# EAGLE library part LM358N (library LM358N)
Low Power Dual Operational Amplifiers Source: Datasheet <https://componentsearchengine.com/Datasheets/5/LM358N.pdf>
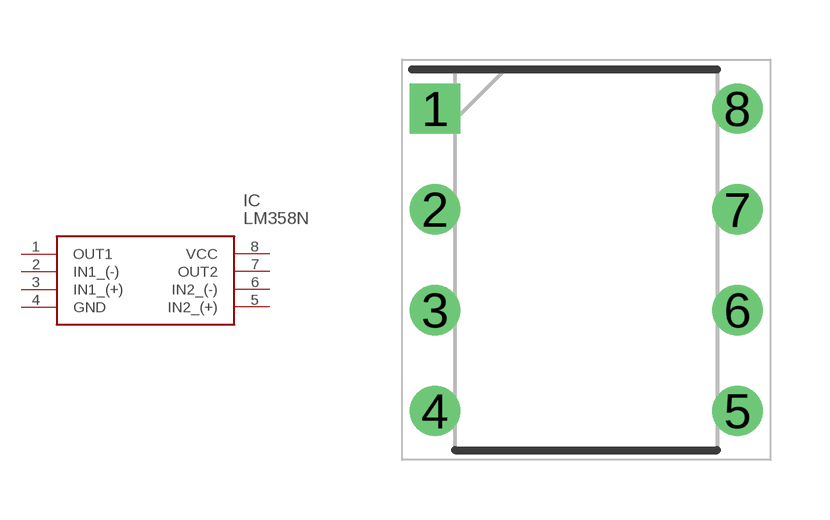
[diagram p0: symbol with the pads of DIP762W56P254L960H393Q8N; footprint DIP762W56P254L960H393Q8N]

Designator prefix IC

## LM358N (Description: Low Power Dual Operational Amplifiers; Height: 3.93mm; Manufacturer_Name: Texas Instruments; Manufacturer_Part_Number: LM358N; Mouser_Part_Number: 926-LM358N; Mouser_Price-Stock: https://www.mouser.co.uk/ProductDetail/Texas-Instruments/LM358N?qs=QbsRYf82W3EG2VDUre1RfQ%3D%3D)  [DIP762W56P254L960H393Q8N]
1  OUT1
2  IN1_(-)
3  IN1_(+)
4  GND
5  IN2_(+)
6  IN2_(-)
7  OUT2
8  VCC

## Footprint DIP762W56P254L960H393Q8N (pad centres in mm)
8-DIP
drill 0.76 pad 1.16 square: 1 -3.81,3.81
drill 0.76 pad 1.16: 2 -3.81,1.27; 3 -3.81,-1.27; 4 -3.81,-3.81; 5 3.81,-3.81; 6 3.81,-1.27; 7 3.81,1.27; 8 3.81,3.81